# Altium footprint library pressure-sensor.PcbLib: 1 footprints
Each footprint in its own frame and in the unit in brackets; x right, y up, seen from the top. Pads: shape width x height; smd on the part's side, far side on the other; paste and mask are expansions set on the pad; w line width, h text height; cw(c..) or ccw(c..) is an arc to the next point about the centre after c.
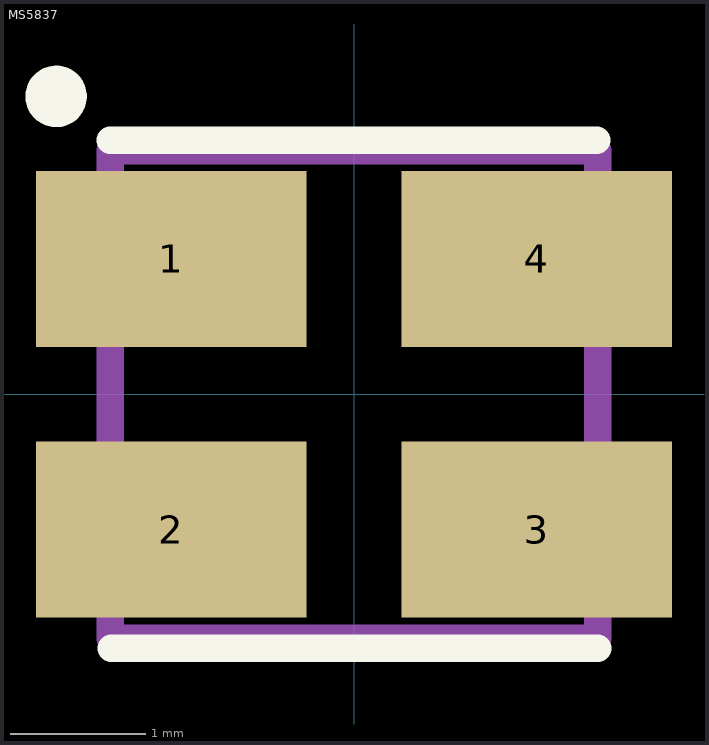
[diagram p0: the footprint, top view; thin cyan lines are the x and y axes]

## MS5837 [mm]
height 2.75
pads (4):
  rect 2x1.3 smd: 1(-1.35,1) 2(-1.35,-1) 3(1.35,-1) 4(1.35,1)
Top Overlay:
  circle w0.254: c-2.2,2.2 r0.1
  lines w0.203: -1.8,1.875 1.794,1.875 ; -1.794,-1.875 1.8,-1.875
Mechanical 29:
  lines w0.203: -1.8,-1.8 -1.8,1.8 1.8,1.8 1.8,-1.8 -1.8,-1.8
  text "'.Designator'" at -1.2,-0.6 h1.52